# EAGLE library part MC34063-SO (library pokus)
DC/DC converter MC34063 in SO08.
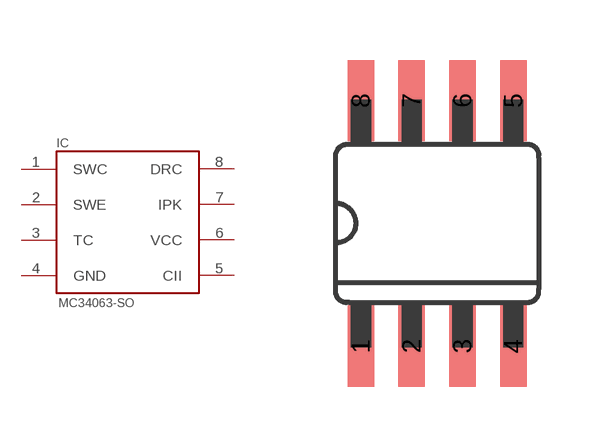
[diagram p1: symbol with the pads of SO8; footprint SO8]

Designator prefix IC

## MC34063-SO  [SO8]
1  SWC
2  SWE
3  TC
4  GND  pwr
5  CII
6  VCC
7  IPK
8  DRC

## Footprint SO8 (pad centres in mm)
smd 0.66 x 2.032: 1 -1.905,-3.073; 2 -0.635,-3.073; 3 0.635,-3.073; 4 1.905,-3.073; 5 1.905,3.073; 6 0.635,3.073; 7 -0.635,3.073; 8 -1.905,3.073